# Altium footprint library RKZE0505S_IsolatedDCDC.PcbLib: 1 footprints
Each footprint in its own frame and in the unit in brackets; x right, y up, seen from the top. Pads: shape width x height; smd on the part's side, far side on the other; paste and mask are expansions set on the pad; w line width, h text height; cw(c..) or ccw(c..) is an arc to the next point about the centre after c.
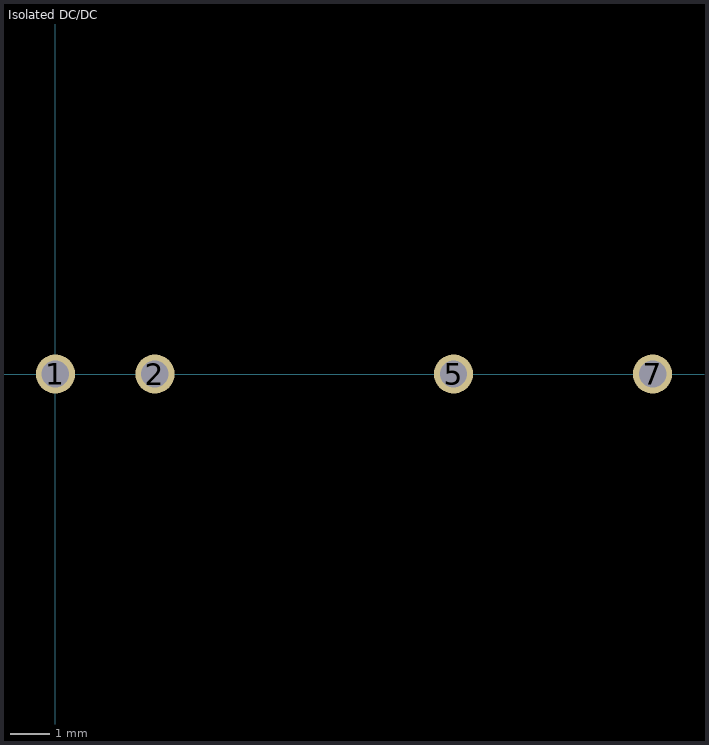
[diagram p0: the footprint, top view; thin cyan lines are the x and y axes]

## Isolated DC/DC [mm] "Isolated DC/DC Converters 2W 05Vin 5Vout 400mA Single SIP7"
pads (4):
  round 1 hole 0.7: 1(0,0) 2(2.54,0) 5(10.16,0) 7(15.24,0)
3D body "User Library-SIP7.STEP": height 12.65, standoff -4.1, extent -2.965,-7.19 16.685,2.76